# Altium schematic symbol library OLED ssd1306.Schlib: 1 symbol
Pins are listed as number, name and electrical type; pins without a type are passive.

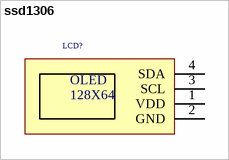
[diagram p0: symbol ssd1306]

## ssd1306
designator LCD?, comment OLEDssd1306  (value not drawn)
SSD1306 OLED Display 1.3"; Manufacturer: China; Part Number: OLEDssd1306; Technology: OLED; Value 2: *; Value: OLEDssd1306; ComponentLink1Description: Datasheet Link; TYPE: Displays
footprint OLEDmodule1,3" (SSD1306 OLED Display)
pins: 1 VDD, 2 GND, 3 SCL, 4 SDA
text: 128X64